# Altium integrated library PUSHBUTTON_SMD_4.7×3.5 mm, 2.5 mm.IntLib: 1 symbol
Pins are listed as number, name and electrical type; pins without a type are passive.

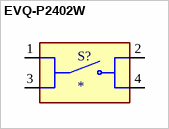
[diagram p0: symbol EVQ-P2402W]

## EVQ-P2402W
designator S?
MF: {'manufacturer': u'Panasonic Electronic Components'}; MP: EVQ-P2402W; Package: None; Price: None; Value: *; Availability: Unavailable
footprint SW_EVQ-P2402W
pins: 1, 2, 3, 4